# EAGLE library part SOCKET-NANO (library ArduinoSockets)
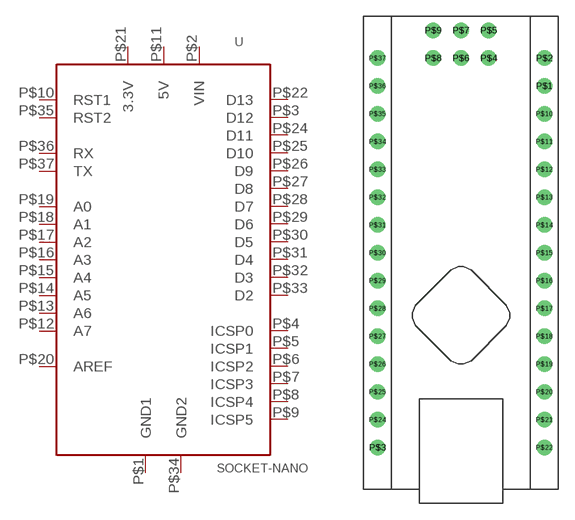
[diagram p0: symbol with the pads of SOCKET-NANO; footprint SOCKET-NANO]

Designator prefix -

## SOCKET-NANO  [SOCKET-NANO]
P$1  GND1  pwr
P$2  VIN  pwr
P$3  D12
P$4  ICSP0
P$5  ICSP1
P$6  ICSP2
P$7  ICSP3
P$8  ICSP4
P$9  ICSP5
P$10  RST1
P$11  5V  pwr
P$12  A7
P$13  A6
P$14  A5
P$15  A4
P$16  A3
P$17  A2
P$18  A1
P$19  A0
P$20  AREF
P$21  3.3V  pwr
P$22  D13
P$24  D11
P$25  D10
P$26  D9
P$27  D8
P$28  D7
P$29  D6
P$30  D5
P$31  D4
P$32  D3
P$33  D2
P$34  GND2  pwr
P$35  RST2
P$36  RX
P$37  TX

## Footprint SOCKET-NANO (pad centres in mm)
drill 0.9: P$1 7.62,34.29; P$2 7.62,36.83; P$3 -7.62,1.27; P$4 2.54,36.83; P$5 2.54,39.37; P$6 0,36.83; P$7 0,39.37; P$8 -2.54,36.83; P$9 -2.54,39.37; P$10 7.62,31.75; P$11 7.62,29.21; P$12 7.62,26.67; P$13 7.62,24.13; P$14 7.62,21.59; P$15 7.62,19.05; P$16 7.62,16.51; P$17 7.62,13.97; P$18 7.62,11.43; P$19 7.62,8.89; P$20 7.62,6.35; P$21 7.62,3.81; P$22 7.62,1.27; P$24 -7.62,3.81; P$25 -7.62,6.35; P$26 -7.62,8.89; P$27 -7.62,11.43; P$28 -7.62,13.97; P$29 -7.62,16.51; P$30 -7.62,19.05; P$31 -7.62,21.59; P$32 -7.62,24.13; P$33 -7.62,26.67; P$34 -7.62,29.21; P$35 -7.62,31.75; P$36 -7.62,34.29; P$37 -7.62,36.83